# Altium footprint library PCB - PASSIVES - TDK VARISTOR 1210.PcbLib: 1 footprints
Each footprint in its own frame and in the unit in brackets; x right, y up, seen from the top. Pads: shape width x height; smd on the part's side, far side on the other; paste and mask are expansions set on the pad; w line width, h text height; cw(c..) or ccw(c..) is an arc to the next point about the centre after c.
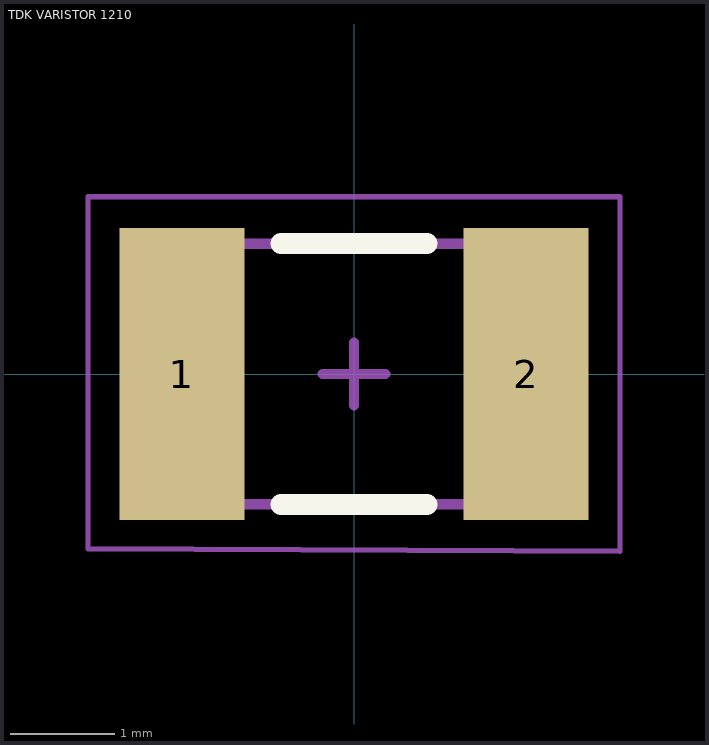
[diagram p0: the footprint, top view; thin cyan lines are the x and y axes]

## TDK VARISTOR 1210 [mm] "Varistor, 2-Leads, Body 3.20x2.50mm, TDK, B72530T0300K062"
height 1.7
pads (2):
  rect 1.2x2.8 smd: 1(-1.65,0) 2(1.65,0)
Top Overlay:
  lines w0.2: -0.7,-1.25 0.7,-1.25 ; -0.7,1.25 0.7,1.25
Mechanical 13:
  lines w0.1: -1.6,-1.25 1.6,-1.25 1.6,1.25 -1.6,1.25 -1.6,-1.25
Mechanical 15:
  lines w0.05: -2.55,-1.675 -2.55,1.7 2.55,1.7 2.55,-1.7 -2.55,-1.675
  lines w0.1: -0.3,0 0.3,0 ; 0,-0.3 0,0.3
3D body "VARISTOR - 1210.step": height 1.7, standoff 0, extent -1.6,-1.25 1.6,1.25